# Altium integrated library Maxim Real-Time Clocks (RTCs).IntLib: 548 symbols (part 8 of 13)
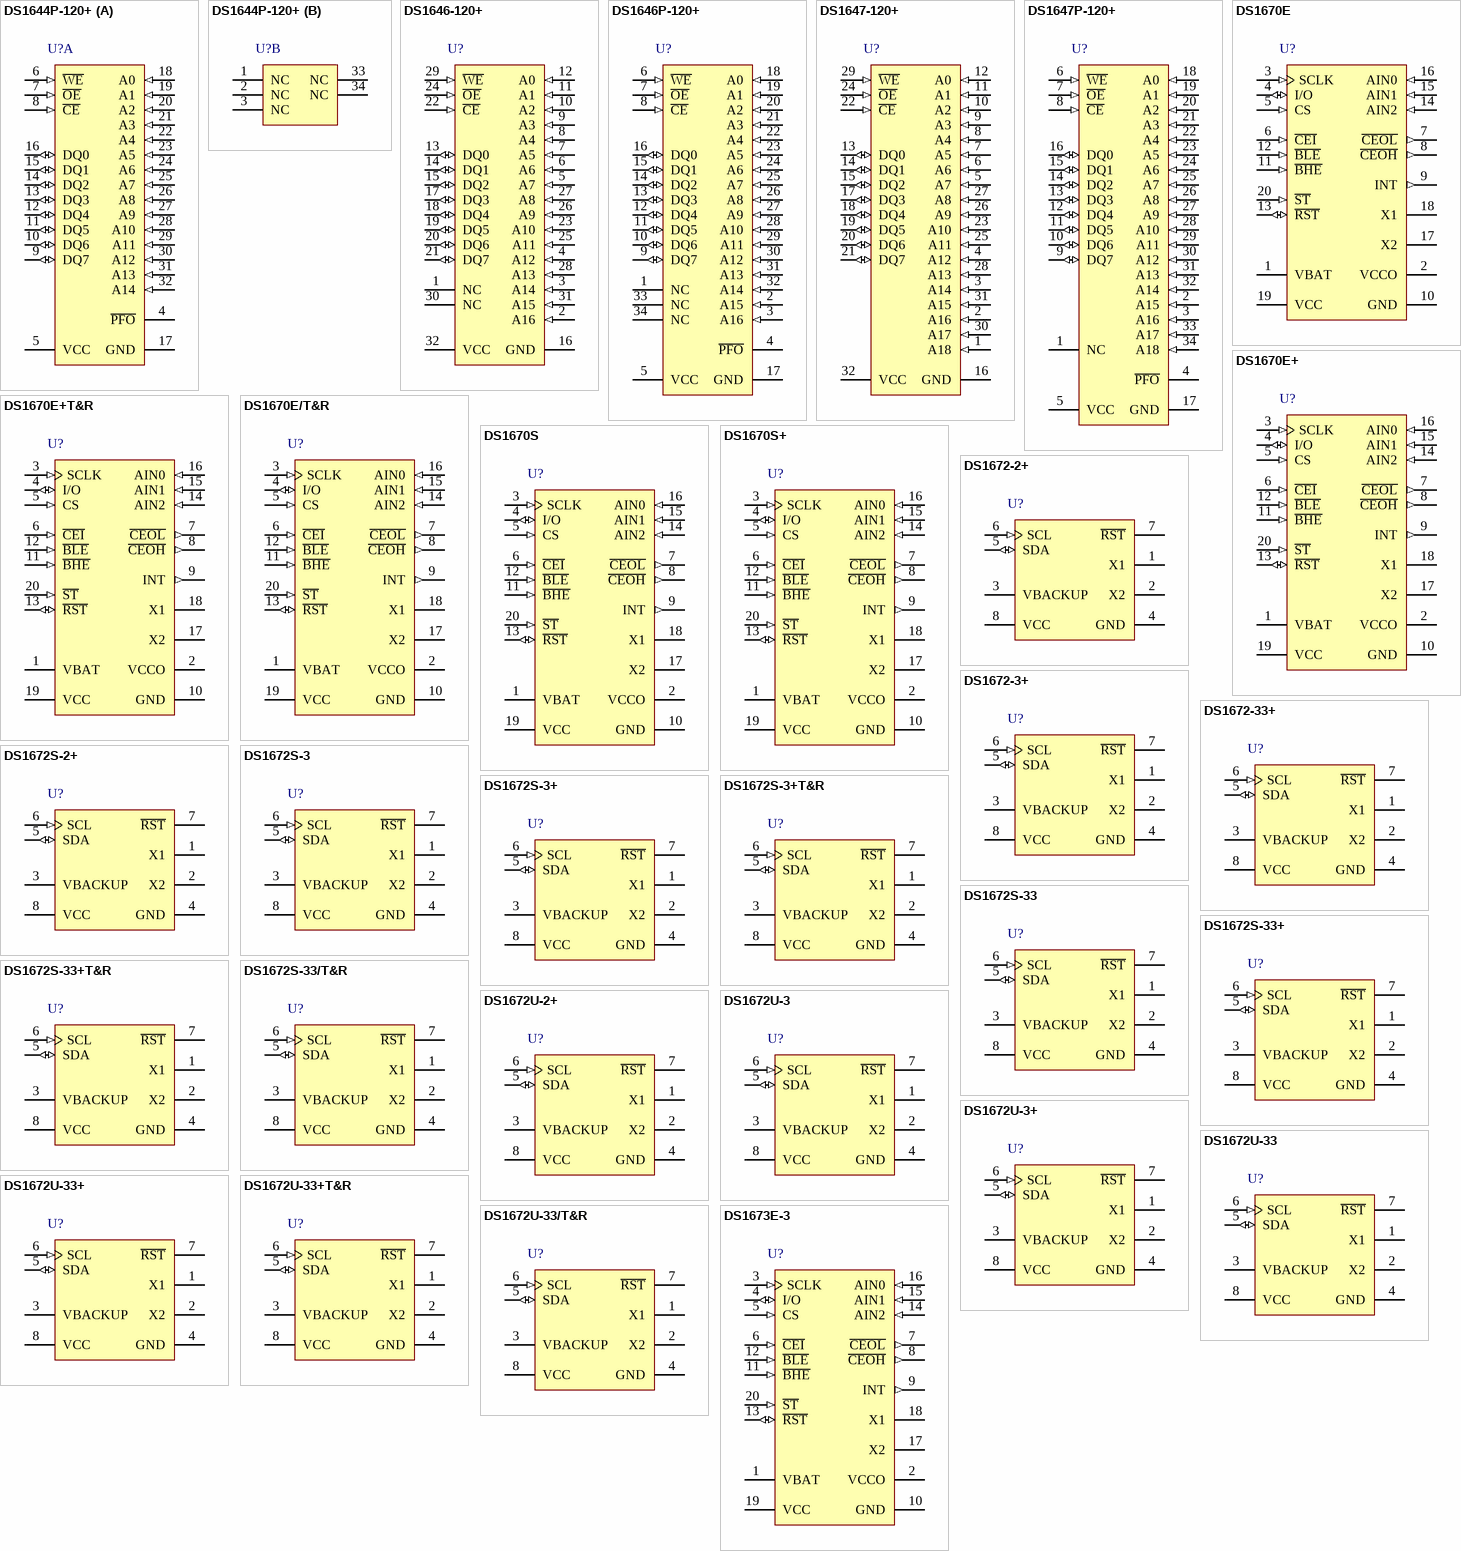
[diagram p28: symbols DS1644P-120+ to DS1673E-3]

## DS1647-120+
designator U?
Nonvolatile Timekeeping RAM, 5.0V, 32-Pin EDIP, 0 to 70 degC, Pb-Free; DatasheetVersion: Oct-2010; PackageVersion: revA, Feb-2009; PackageReference: MDT32+4; PackageDescription: 32-Pin Encapsulated Dual-In-Line Module, 2.54 mm Pitch, EDIP, Pb-Free; ComponentLink1Description: Manufacturer URL; ComponentLink1URL: http://www.maxim-ic.com; ComponentLink2Description: Datasheet; ComponentLink2URL: http://datasheets.maxim-ic.com/en/ds/DS1647-DS1647P.pdf; ComponentLink3Description: Package Specification; ComponentLink3URL: http://pdfserv.maxim-ic.com/package_dwgs/21-0245.PDF
footprint MDT32+4 (DIP, 32 Rectangular Pins, Body 43.1x18.5mm, Row Space 15.24mm, Pitch 2.54mm)
pins: 1 A18 (in), 2 A16 (in), 3 A14 (in), 4 A12 (in), 5 A7 (in), 6 A6 (in), 7 A5 (in), 8 A4 (in), 9 A3 (in), 10 A2 (in), 11 A1 (in), 12 A0 (in), 13 DQ0 (io), 14 DQ1 (io), 15 DQ2 (io), 16 GND (power), 17 DQ3 (io), 18 DQ4 (io), 19 DQ5 (io), 20 DQ6 (io), 21 DQ7 (io), 22 ~{CE} (in), 23 A10 (in), 24 ~{OE} (in), 25 A11 (in), 26 A9 (in), 27 A8 (in), 28 A13 (in), 29 ~{WE} (in), 30 A17 (in), 31 A15 (in), 32 VCC (power)

## DS1647P-120+
designator U?
Nonvolatile Timekeeping RAM, 5.0V, 34-Pin PowerCap, 0 to 70 degC, Pb-Free; DatasheetVersion: Oct-2010; PackageVersion: revA, 2004; PackageReference: PC2+1; PackageDescription: 34-Pin PowerCap 0.990 Module with Cap, PCAP, Pb-Free; ComponentLink1Description: Manufacturer URL; ComponentLink1URL: http://www.maxim-ic.com; ComponentLink2Description: Datasheet; ComponentLink2URL: http://datasheets.maxim-ic.com/en/ds/DS1647-DS1647P.pdf; ComponentLink3Description: Package Specification; ComponentLink3URL: http://pdfserv.maxim-ic.com/package_dwgs/21-0246.PDF
footprint PC2+1 (PowerCap Module with Cap, 34-Leads, Body 24.7 x.25.3mm, Pitch 1.27mm)
pins: 1 NC, 2 A15 (in), 3 A16 (in), 4 ~{PFO} (oc), 5 VCC (power), 6 ~{WE} (in), 7 ~{OE} (in), 8 ~{CE} (in), 9 DQ7 (io), 10 DQ6 (io), 11 DQ5 (io), 12 DQ4 (io), 13 DQ3 (io), 14 DQ2 (io), 15 DQ1 (io), 16 DQ0 (io), 17 GND (power), 18 A0 (in), 19 A1 (in), 20 A2 (in), 21 A3 (in), 22 A4 (in), 23 A5 (in), 24 A6 (in), 25 A7 (in), 26 A8 (in), 27 A9 (in), 28 A10 (in), 29 A11 (in), 30 A12 (in), 31 A13 (in), 32 A14 (in), 33 A17 (in), 34 A18 (in)

## DS1670E
designator U?
Portable System Controller, Real-Time Clock, NV SRAM Control, Microprocessor Monitor, ADC, 3.3V, 20-Pin TSSOP, 0 to 70 degC; DatasheetVersion: Aug-2005; PackageVersion: revL, 2010; PackageReference: U20-1; PackageDescription: 20-Pin Thin Shrink Small-Outline Package, 4.4 mm Body, TSSOP; Code_JEDEC: MO-153-AC; ComponentLink1Description: Manufacturer URL; ComponentLink1URL: http://www.maxim-ic.com; ComponentLink2Description: Datasheet; ComponentLink2URL: http://datasheets.maxim-ic.com/en/ds/DS1670.pdf; ComponentLink3Description: Package Specification; ComponentLink3URL: http://pdfserv.maxim-ic.com/package_dwgs/21-0066.PDF
footprint U20-1_N (TSOP, 20-Leads, Body 6.5x4.4mm, Pitch 0.65mm, IPC Medium Density)
footprint U20-1_L (TSOP, 20-Leads, Body 6.5x4.4mm, Pitch 0.65mm, IPC High Density)
footprint U20-1_M (TSOP, 20-Leads, Body 6.5x4.4mm, Pitch 0.65mm, IPC Low Density)
pins: 1 VBAT (power), 2 VCCO (power), 3 SCLK (in), 4 I/O (io), 5 CS (in), 6 ~{CEI} (in), 7 ~{CEOL} (out), 8 ~{CEOH} (out), 9 INT (out), 10 GND (power), 11 ~{BHE} (in), 12 ~{BLE} (in), 13 ~{RST} (io), 14 AIN2 (in), 15 AIN1 (in), 16 AIN0 (in), 17 X2, 18 X1, 19 VCC (power), 20 ~{ST} (in)

## DS1670E+
designator U?
Portable System Controller, Real-Time Clock, NV SRAM Control, Microprocessor Monitor, ADC, 3.3V, 20-Pin TSSOP, 0 to 70 degC, Pb-Free; DatasheetVersion: Aug-2005; PackageVersion: revL, 2010; PackageReference: U20+1; PackageDescription: 20-Pin Thin Shrink Small-Outline Package, 4.4 mm Body, TSSOP, Pb-Free; Code_JEDEC: MO-153-AC; ComponentLink1Description: Manufacturer URL; ComponentLink1URL: http://www.maxim-ic.com; ComponentLink2Description: Datasheet; ComponentLink2URL: http://datasheets.maxim-ic.com/en/ds/DS1670.pdf; ComponentLink3Description: Package Specification; ComponentLink3URL: http://pdfserv.maxim-ic.com/package_dwgs/21-0066.PDF
footprint U20+1_N (TSOP, 20-Leads, Body 6.5x4.4mm, Pitch 0.65mm, IPC Medium Density)
footprint U20+1_L (TSOP, 20-Leads, Body 6.5x4.4mm, Pitch 0.65mm, IPC High Density)
footprint U20+1_M (TSOP, 20-Leads, Body 6.5x4.4mm, Pitch 0.65mm, IPC Low Density)
pins: 1 VBAT (power), 2 VCCO (power), 3 SCLK (in), 4 I/O (io), 5 CS (in), 6 ~{CEI} (in), 7 ~{CEOL} (out), 8 ~{CEOH} (out), 9 INT (out), 10 GND (power), 11 ~{BHE} (in), 12 ~{BLE} (in), 13 ~{RST} (io), 14 AIN2 (in), 15 AIN1 (in), 16 AIN0 (in), 17 X2, 18 X1, 19 VCC (power), 20 ~{ST} (in)

## DS1670E+T&R
designator U?
Portable System Controller, Real-Time Clock, NV SRAM Control, Microprocessor Monitor, ADC, 3.3V, 20-Pin TSSOP, 0 to 70 degC, Pb-Free, Reel; DatasheetVersion: Aug-2005; PackageVersion: revL, 2010; PackageReference: U20+1; PackageDescription: 20-Pin Thin Shrink Small-Outline Package, 4.4 mm Body, TSSOP, Pb-Free; Code_JEDEC: MO-153-AC; ComponentLink1Description: Manufacturer URL; ComponentLink1URL: http://www.maxim-ic.com; ComponentLink2Description: Datasheet; ComponentLink2URL: http://datasheets.maxim-ic.com/en/ds/DS1670.pdf; ComponentLink3Description: Package Specification; ComponentLink3URL: http://pdfserv.maxim-ic.com/package_dwgs/21-0066.PDF
footprint U20+1_N (TSOP, 20-Leads, Body 6.5x4.4mm, Pitch 0.65mm, IPC Medium Density)
footprint U20+1_L (TSOP, 20-Leads, Body 6.5x4.4mm, Pitch 0.65mm, IPC High Density)
footprint U20+1_M (TSOP, 20-Leads, Body 6.5x4.4mm, Pitch 0.65mm, IPC Low Density)
pins: 1 VBAT (power), 2 VCCO (power), 3 SCLK (in), 4 I/O (io), 5 CS (in), 6 ~{CEI} (in), 7 ~{CEOL} (out), 8 ~{CEOH} (out), 9 INT (out), 10 GND (power), 11 ~{BHE} (in), 12 ~{BLE} (in), 13 ~{RST} (io), 14 AIN2 (in), 15 AIN1 (in), 16 AIN0 (in), 17 X2, 18 X1, 19 VCC (power), 20 ~{ST} (in)

## DS1670E/T&R
designator U?
Portable System Controller, Real-Time Clock, NV SRAM Control, Microprocessor Monitor, ADC, 3.3V, 20-Pin TSSOP, 0 to 70 degC, Reel; DatasheetVersion: Aug-2005; PackageVersion: revL, 2010; PackageReference: U20-1; PackageDescription: 20-Pin Thin Shrink Small-Outline Package, 4.4 mm Body, TSSOP; Code_JEDEC: MO-153-AC; ComponentLink1Description: Manufacturer URL; ComponentLink1URL: http://www.maxim-ic.com; ComponentLink2Description: Datasheet; ComponentLink2URL: http://datasheets.maxim-ic.com/en/ds/DS1670.pdf; ComponentLink3Description: Package Specification; ComponentLink3URL: http://pdfserv.maxim-ic.com/package_dwgs/21-0066.PDF
footprint U20-1_N (TSOP, 20-Leads, Body 6.5x4.4mm, Pitch 0.65mm, IPC Medium Density)
footprint U20-1_L (TSOP, 20-Leads, Body 6.5x4.4mm, Pitch 0.65mm, IPC High Density)
footprint U20-1_M (TSOP, 20-Leads, Body 6.5x4.4mm, Pitch 0.65mm, IPC Low Density)
pins: 1 VBAT (power), 2 VCCO (power), 3 SCLK (in), 4 I/O (io), 5 CS (in), 6 ~{CEI} (in), 7 ~{CEOL} (out), 8 ~{CEOH} (out), 9 INT (out), 10 GND (power), 11 ~{BHE} (in), 12 ~{BLE} (in), 13 ~{RST} (io), 14 AIN2 (in), 15 AIN1 (in), 16 AIN0 (in), 17 X2, 18 X1, 19 VCC (power), 20 ~{ST} (in)

## DS1670S
designator U?
Portable System Controller, Real-Time Clock, NV SRAM Control, Microprocessor Monitor, ADC, 3.3V, 20-Pin SO, 0 to 70 degC; DatasheetVersion: Aug-2005; PackageVersion: revD, 2010; PackageReference: W20-3; PackageDescription: 20-Pin Small-Outline IC, Wide (0.3in), 1.27 mm Pitch, SOIC (W); Code_JEDEC: MS-013-AC; Code_IPC: SOIC127P1030-20; ComponentLink1Description: Manufacturer URL; ComponentLink1URL: http://www.maxim-ic.com; ComponentLink2Description: Datasheet; ComponentLink2URL: http://datasheets.maxim-ic.com/en/ds/DS1670.pdf; ComponentLink3Description: Package Specification; ComponentLink3URL: http://pdfserv.maxim-ic.com/package_dwgs/21-0042.PDF
footprint W20-3_N (SOIC, 20-Leads, Body 12.8x7.5mm, Pitch 1.27mm, IPC Medium Density)
footprint W20-3_L (SOIC, 20-Leads, Body 12.8x7.5mm, Pitch 1.27mm, IPC High Density)
footprint W20-3_M (SOIC, 20-Leads, Body 12.8x7.5mm, Pitch 1.27mm, IPC Low Density)
pins: 1 VBAT (power), 2 VCCO (power), 3 SCLK (in), 4 I/O (io), 5 CS (in), 6 ~{CEI} (in), 7 ~{CEOL} (out), 8 ~{CEOH} (out), 9 INT (out), 10 GND (power), 11 ~{BHE} (in), 12 ~{BLE} (in), 13 ~{RST} (io), 14 AIN2 (in), 15 AIN1 (in), 16 AIN0 (in), 17 X2, 18 X1, 19 VCC (power), 20 ~{ST} (in)

## DS1670S+
designator U?
Portable System Controller, Real-Time Clock, NV SRAM Control, Microprocessor Monitor, ADC, 3.3V, 20-Pin SO, 0 to 70 degC, Pb-Free; DatasheetVersion: Aug-2005; PackageVersion: revD, 2010; PackageReference: W20+3; PackageDescription: 20-Pin Small-Outline IC, Wide (0.3in), 1.27 mm Pitch, SOIC (W), Pb-Free; Code_JEDEC: MS-013-AC; Code_IPC: SOIC127P1030-20; ComponentLink1Description: Manufacturer URL; ComponentLink1URL: http://www.maxim-ic.com; ComponentLink2Description: Datasheet; ComponentLink2URL: http://datasheets.maxim-ic.com/en/ds/DS1670.pdf; ComponentLink3Description: Package Specification; ComponentLink3URL: http://pdfserv.maxim-ic.com/package_dwgs/21-0042.PDF
footprint W20+3_N (SOIC, 20-Leads, Body 12.8x7.5mm, Pitch 1.27mm, IPC Medium Density)
footprint W20+3_L (SOIC, 20-Leads, Body 12.8x7.5mm, Pitch 1.27mm, IPC High Density)
footprint W20+3_M (SOIC, 20-Leads, Body 12.8x7.5mm, Pitch 1.27mm, IPC Low Density)
pins: 1 VBAT (power), 2 VCCO (power), 3 SCLK (in), 4 I/O (io), 5 CS (in), 6 ~{CEI} (in), 7 ~{CEOL} (out), 8 ~{CEOH} (out), 9 INT (out), 10 GND (power), 11 ~{BHE} (in), 12 ~{BLE} (in), 13 ~{RST} (io), 14 AIN2 (in), 15 AIN1 (in), 16 AIN0 (in), 17 X2, 18 X1, 19 VCC (power), 20 ~{ST} (in)

## DS1672-2+
designator U?
I2C 32-Bit Binary Counter Real-Time Clock, 2.0V, 8-Pin PDIP, -40 to 85 degC, Pb-Free; DatasheetVersion: Sep-2011; PackageVersion: revE, 2011; PackageReference: P8+1; PackageDescription: 8-Pin Plastic Dual-In-Line, Narrow (0.3in), Pitch 2.54 mm, PDIP(N), Pb-Free; Code_JEDEC: MS-001-AB; ComponentLink1Description: Manufacturer URL; ComponentLink1URL: http://www.maxim-ic.com; ComponentLink2Description: Datasheet; ComponentLink2URL: http://datasheets.maxim-ic.com/en/ds/DS1672.pdf; ComponentLink3Description: Package Specification; ComponentLink3URL: http://pdfserv.maxim-ic.com/package_dwgs/21-0043.PDF
footprint P8+1 (DIP, 8-Leads, Row Spacing 7.62mm, Pitch 2.54mm, Body 9.4x7mm)
pins: 1 X1, 2 X2, 3 VBACKUP (power), 4 GND (power), 5 SDA (io), 6 SCL (in), 7 ~{RST} (oc), 8 VCC (power)

## DS1672-3+
designator U?
I2C 32-Bit Binary Counter Real-Time Clock, 3.0V, 8-Pin PDIP, -40 to 85 degC, Pb-Free; DatasheetVersion: Sep-2011; PackageVersion: revE, 2011; PackageReference: P8+1; PackageDescription: 8-Pin Plastic Dual-In-Line, Narrow (0.3in), Pitch 2.54 mm, PDIP(N), Pb-Free; Code_JEDEC: MS-001-AB; ComponentLink1Description: Manufacturer URL; ComponentLink1URL: http://www.maxim-ic.com; ComponentLink2Description: Datasheet; ComponentLink2URL: http://datasheets.maxim-ic.com/en/ds/DS1672.pdf; ComponentLink3Description: Package Specification; ComponentLink3URL: http://pdfserv.maxim-ic.com/package_dwgs/21-0043.PDF
footprint P8+1 (DIP, 8-Leads, Row Spacing 7.62mm, Pitch 2.54mm, Body 9.4x7mm)
pins: 1 X1, 2 X2, 3 VBACKUP (power), 4 GND (power), 5 SDA (io), 6 SCL (in), 7 ~{RST} (oc), 8 VCC (power)

## DS1672-33+
designator U?
I2C 32-Bit Binary Counter Real-Time Clock, 3.3V, 8-Pin PDIP, -40 to 85 degC, Pb-Free; DatasheetVersion: Sep-2011; PackageVersion: revE, 2011; PackageReference: P8+1; PackageDescription: 8-Pin Plastic Dual-In-Line, Narrow (0.3in), Pitch 2.54 mm, PDIP(N), Pb-Free; Code_JEDEC: MS-001-AB; ComponentLink1Description: Manufacturer URL; ComponentLink1URL: http://www.maxim-ic.com; ComponentLink2Description: Datasheet; ComponentLink2URL: http://datasheets.maxim-ic.com/en/ds/DS1672.pdf; ComponentLink3Description: Package Specification; ComponentLink3URL: http://pdfserv.maxim-ic.com/package_dwgs/21-0043.PDF
footprint P8+1 (DIP, 8-Leads, Row Spacing 7.62mm, Pitch 2.54mm, Body 9.4x7mm)
pins: 1 X1, 2 X2, 3 VBACKUP (power), 4 GND (power), 5 SDA (io), 6 SCL (in), 7 ~{RST} (oc), 8 VCC (power)

## DS1672S-2+
designator U?
I2C 32-Bit Binary Counter Real-Time Clock, 2.0V, 8-Pin SO, -40 to 85 degC, Pb-Free; DatasheetVersion: Sep-2011; PackageVersion: revC, 2010; PackageReference: S8+5; PackageDescription: 8-Pin Small-Outline IC, Narrow (0.15in), 1.27 mm Pitch, SOIC (N), Pb-Free; Code_JEDEC: MS-012-AA; Code_IPC: SOIC127P600-8; ComponentLink1Description: Manufacturer URL; ComponentLink1URL: http://www.maxim-ic.com; ComponentLink2Description: Datasheet; ComponentLink2URL: http://datasheets.maxim-ic.com/en/ds/DS1672.pdf; ComponentLink3Description: Package Specification; ComponentLink3URL: http://pdfserv.maxim-ic.com/package_dwgs/21-0041.PDF
footprint S8+5_N (SOIC, 8-Leads, Body 4.9x3.9mm, Pitch 1.27mm, IPC Medium Density)
footprint S8+5_L (SOIC, 8-Leads, Body 4.9x3.9mm, Pitch 1.27mm, IPC High Density)
footprint S8+5_M (SOIC, 8-Leads, Body 4.9x3.9mm, Pitch 1.27mm, IPC Low Density)
pins: 1 X1, 2 X2, 3 VBACKUP (power), 4 GND (power), 5 SDA (io), 6 SCL (in), 7 ~{RST} (oc), 8 VCC (power)

## DS1672S-3
designator U?
I2C 32-Bit Binary Counter Real-Time Clock, 3.0V, 8-Pin SO, -40 to 85 degC; DatasheetVersion: Sep-2011; PackageVersion: revC, 2010; PackageReference: S8-4; PackageDescription: 8-Pin Small-Outline IC, Narrow (0.15in), 1.27 mm Pitch, SOIC (N); Code_JEDEC: MS-012-AA; Code_IPC: SOIC127P600-8; ComponentLink1Description: Manufacturer URL; ComponentLink1URL: http://www.maxim-ic.com; ComponentLink2Description: Datasheet; ComponentLink2URL: http://datasheets.maxim-ic.com/en/ds/DS1672.pdf; ComponentLink3Description: Package Specification; ComponentLink3URL: http://pdfserv.maxim-ic.com/package_dwgs/21-0041.PDF
footprint S8-4_N (SOIC, 8-Leads, Body 4.9x3.9mm, Pitch 1.27mm, IPC Medium Density)
footprint S8-4_L (SOIC, 8-Leads, Body 4.9x3.9mm, Pitch 1.27mm, IPC High Density)
footprint S8-4_M (SOIC, 8-Leads, Body 4.9x3.9mm, Pitch 1.27mm, IPC Low Density)
pins: 1 X1, 2 X2, 3 VBACKUP (power), 4 GND (power), 5 SDA (io), 6 SCL (in), 7 ~{RST} (oc), 8 VCC (power)

## DS1672S-3+
designator U?
I2C 32-Bit Binary Counter Real-Time Clock, 3.0V, 8-Pin SO, -40 to 85 degC, Pb-Free; DatasheetVersion: Sep-2011; PackageVersion: revC, 2010; PackageReference: S8+5; PackageDescription: 8-Pin Small-Outline IC, Narrow (0.15in), 1.27 mm Pitch, SOIC (N), Pb-Free; Code_JEDEC: MS-012-AA; Code_IPC: SOIC127P600-8; ComponentLink1Description: Manufacturer URL; ComponentLink1URL: http://www.maxim-ic.com; ComponentLink2Description: Datasheet; ComponentLink2URL: http://datasheets.maxim-ic.com/en/ds/DS1672.pdf; ComponentLink3Description: Package Specification; ComponentLink3URL: http://pdfserv.maxim-ic.com/package_dwgs/21-0041.PDF
footprint S8+5_N (SOIC, 8-Leads, Body 4.9x3.9mm, Pitch 1.27mm, IPC Medium Density)
footprint S8+5_L (SOIC, 8-Leads, Body 4.9x3.9mm, Pitch 1.27mm, IPC High Density)
footprint S8+5_M (SOIC, 8-Leads, Body 4.9x3.9mm, Pitch 1.27mm, IPC Low Density)
pins: 1 X1, 2 X2, 3 VBACKUP (power), 4 GND (power), 5 SDA (io), 6 SCL (in), 7 ~{RST} (oc), 8 VCC (power)

## DS1672S-3+T&R
designator U?
I2C 32-Bit Binary Counter Real-Time Clock, 3.0V, 8-Pin SO, -40 to 85 degC, Pb-Free, Reel; DatasheetVersion: Sep-2011; PackageVersion: revC, 2010; PackageReference: S8+5; PackageDescription: 8-Pin Small-Outline IC, Narrow (0.15in), 1.27 mm Pitch, SOIC (N), Pb-Free; Code_JEDEC: MS-012-AA; Code_IPC: SOIC127P600-8; ComponentLink1Description: Manufacturer URL; ComponentLink1URL: http://www.maxim-ic.com; ComponentLink2Description: Datasheet; ComponentLink2URL: http://datasheets.maxim-ic.com/en/ds/DS1672.pdf; ComponentLink3Description: Package Specification; ComponentLink3URL: http://pdfserv.maxim-ic.com/package_dwgs/21-0041.PDF
footprint S8+5_N (SOIC, 8-Leads, Body 4.9x3.9mm, Pitch 1.27mm, IPC Medium Density)
footprint S8+5_L (SOIC, 8-Leads, Body 4.9x3.9mm, Pitch 1.27mm, IPC High Density)
footprint S8+5_M (SOIC, 8-Leads, Body 4.9x3.9mm, Pitch 1.27mm, IPC Low Density)
pins: 1 X1, 2 X2, 3 VBACKUP (power), 4 GND (power), 5 SDA (io), 6 SCL (in), 7 ~{RST} (oc), 8 VCC (power)

## DS1672S-33
designator U?
I2C 32-Bit Binary Counter Real-Time Clock, 3.3V, 8-Pin SO, -40 to 85 degC; DatasheetVersion: Sep-2011; PackageVersion: revC, 2010; PackageReference: S8-4; PackageDescription: 8-Pin Small-Outline IC, Narrow (0.15in), 1.27 mm Pitch, SOIC (N); Code_JEDEC: MS-012-AA; Code_IPC: SOIC127P600-8; ComponentLink1Description: Manufacturer URL; ComponentLink1URL: http://www.maxim-ic.com; ComponentLink2Description: Datasheet; ComponentLink2URL: http://datasheets.maxim-ic.com/en/ds/DS1672.pdf; ComponentLink3Description: Package Specification; ComponentLink3URL: http://pdfserv.maxim-ic.com/package_dwgs/21-0041.PDF
footprint S8-4_N (SOIC, 8-Leads, Body 4.9x3.9mm, Pitch 1.27mm, IPC Medium Density)
footprint S8-4_L (SOIC, 8-Leads, Body 4.9x3.9mm, Pitch 1.27mm, IPC High Density)
footprint S8-4_M (SOIC, 8-Leads, Body 4.9x3.9mm, Pitch 1.27mm, IPC Low Density)
pins: 1 X1, 2 X2, 3 VBACKUP (power), 4 GND (power), 5 SDA (io), 6 SCL (in), 7 ~{RST} (oc), 8 VCC (power)

## DS1672S-33+
designator U?
I2C 32-Bit Binary Counter Real-Time Clock, 3.3V, 8-Pin SO, -40 to 85 degC, Pb-Free; DatasheetVersion: Sep-2011; PackageVersion: revC, 2010; PackageReference: S8+5; PackageDescription: 8-Pin Small-Outline IC, Narrow (0.15in), 1.27 mm Pitch, SOIC (N), Pb-Free; Code_JEDEC: MS-012-AA; Code_IPC: SOIC127P600-8; ComponentLink1Description: Manufacturer URL; ComponentLink1URL: http://www.maxim-ic.com; ComponentLink2Description: Datasheet; ComponentLink2URL: http://datasheets.maxim-ic.com/en/ds/DS1672.pdf; ComponentLink3Description: Package Specification; ComponentLink3URL: http://pdfserv.maxim-ic.com/package_dwgs/21-0041.PDF
footprint S8+5_N (SOIC, 8-Leads, Body 4.9x3.9mm, Pitch 1.27mm, IPC Medium Density)
footprint S8+5_L (SOIC, 8-Leads, Body 4.9x3.9mm, Pitch 1.27mm, IPC High Density)
footprint S8+5_M (SOIC, 8-Leads, Body 4.9x3.9mm, Pitch 1.27mm, IPC Low Density)
pins: 1 X1, 2 X2, 3 VBACKUP (power), 4 GND (power), 5 SDA (io), 6 SCL (in), 7 ~{RST} (oc), 8 VCC (power)

## DS1672S-33+T&R
designator U?
I2C 32-Bit Binary Counter Real-Time Clock, 3.3V, 8-Pin SO, -40 to 85 degC, Pb-Free, Reel; DatasheetVersion: Sep-2011; PackageVersion: revC, 2010; PackageReference: S8+5; PackageDescription: 8-Pin Small-Outline IC, Narrow (0.15in), 1.27 mm Pitch, SOIC (N), Pb-Free; Code_JEDEC: MS-012-AA; Code_IPC: SOIC127P600-8; ComponentLink1Description: Manufacturer URL; ComponentLink1URL: http://www.maxim-ic.com; ComponentLink2Description: Datasheet; ComponentLink2URL: http://datasheets.maxim-ic.com/en/ds/DS1672.pdf; ComponentLink3Description: Package Specification; ComponentLink3URL: http://pdfserv.maxim-ic.com/package_dwgs/21-0041.PDF
footprint S8+5_N (SOIC, 8-Leads, Body 4.9x3.9mm, Pitch 1.27mm, IPC Medium Density)
footprint S8+5_L (SOIC, 8-Leads, Body 4.9x3.9mm, Pitch 1.27mm, IPC High Density)
footprint S8+5_M (SOIC, 8-Leads, Body 4.9x3.9mm, Pitch 1.27mm, IPC Low Density)
pins: 1 X1, 2 X2, 3 VBACKUP (power), 4 GND (power), 5 SDA (io), 6 SCL (in), 7 ~{RST} (oc), 8 VCC (power)

## DS1672S-33/T&R
designator U?
I2C 32-Bit Binary Counter Real-Time Clock, 3.3V, 8-Pin SO, -40 to 85 degC, Reel; DatasheetVersion: Sep-2011; PackageVersion: revC, 2010; PackageReference: S8-4; PackageDescription: 8-Pin Small-Outline IC, Narrow (0.15in), 1.27 mm Pitch, SOIC (N); Code_JEDEC: MS-012-AA; Code_IPC: SOIC127P600-8; ComponentLink1Description: Manufacturer URL; ComponentLink1URL: http://www.maxim-ic.com; ComponentLink2Description: Datasheet; ComponentLink2URL: http://datasheets.maxim-ic.com/en/ds/DS1672.pdf; ComponentLink3Description: Package Specification; ComponentLink3URL: http://pdfserv.maxim-ic.com/package_dwgs/21-0041.PDF
footprint S8-4_N (SOIC, 8-Leads, Body 4.9x3.9mm, Pitch 1.27mm, IPC Medium Density)
footprint S8-4_L (SOIC, 8-Leads, Body 4.9x3.9mm, Pitch 1.27mm, IPC High Density)
footprint S8-4_M (SOIC, 8-Leads, Body 4.9x3.9mm, Pitch 1.27mm, IPC Low Density)
pins: 1 X1, 2 X2, 3 VBACKUP (power), 4 GND (power), 5 SDA (io), 6 SCL (in), 7 ~{RST} (oc), 8 VCC (power)

## DS1672U-2+
designator U?
I2C 32-Bit Binary Counter Real-Time Clock, 2.0V, 8-Pin uSOP, -40 to 85 degC, Pb-Free; DatasheetVersion: Sep-2011; PackageVersion: revL, 2009; PackageReference: U8+1; PackageDescription: 8-Pin Micro-MAX, Thin Shrink Small-Outline, 0.65 mm Pitch, uMAX, uSOP, Pb-Free; Code_JEDEC: MO-187-AA; ComponentLink1Description: Manufacturer URL; ComponentLink1URL: http://www.maxim-ic.com; ComponentLink2Description: Datasheet; ComponentLink2URL: http://datasheets.maxim-ic.com/en/ds/DS1672.pdf; ComponentLink3Description: Package Specification; ComponentLink3URL: http://pdfserv.maxim-ic.com/package_dwgs/21-0036.PDF
footprint U8+1_N (TSOP, 8-Leads, Body 3x3mm, Pitch 0.65mm, IPC Medium Density)
footprint U8+1_L (TSOP, 8-Leads, Body 3x3mm, Pitch 0.65mm, IPC High Density)
footprint U8+1_M (TSOP, 8-Leads, Body 3x3mm, Pitch 0.65mm, IPC Low Density)
pins: 1 X1, 2 X2, 3 VBACKUP (power), 4 GND (power), 5 SDA (io), 6 SCL (in), 7 ~{RST} (oc), 8 VCC (power)

## DS1672U-3
designator U?
I2C 32-Bit Binary Counter Real-Time Clock, 3.0V, 8-Pin uSOP, -40 to 85 degC; DatasheetVersion: Sep-2011; PackageVersion: revL, 2009; PackageReference: U8-1; PackageDescription: 8-Pin Micro-MAX, Thin Shrink Small-Outline, 0.65 mm Pitch, uMAX, uSOP; Code_JEDEC: MO-187-AA; ComponentLink1Description: Manufacturer URL; ComponentLink1URL: http://www.maxim-ic.com; ComponentLink2Description: Datasheet; ComponentLink2URL: http://datasheets.maxim-ic.com/en/ds/DS1672.pdf; ComponentLink3Description: Package Specification; ComponentLink3URL: http://pdfserv.maxim-ic.com/package_dwgs/21-0036.PDF
footprint U8-1_N (TSOP, 8-Leads, Body 3x3mm, Pitch 0.65mm, IPC Medium Density)
footprint U8-1_L (TSOP, 8-Leads, Body 3x3mm, Pitch 0.65mm, IPC High Density)
footprint U8-1_M (TSOP, 8-Leads, Body 3x3mm, Pitch 0.65mm, IPC Low Density)
pins: 1 X1, 2 X2, 3 VBACKUP (power), 4 GND (power), 5 SDA (io), 6 SCL (in), 7 ~{RST} (oc), 8 VCC (power)

## DS1672U-3+
designator U?
I2C 32-Bit Binary Counter Real-Time Clock, 3.0V, 8-Pin uSOP, -40 to 85 degC, Pb-Free; DatasheetVersion: Sep-2011; PackageVersion: revL, 2009; PackageReference: U8+1; PackageDescription: 8-Pin Micro-MAX, Thin Shrink Small-Outline, 0.65 mm Pitch, uMAX, uSOP, Pb-Free; Code_JEDEC: MO-187-AA; ComponentLink1Description: Manufacturer URL; ComponentLink1URL: http://www.maxim-ic.com; ComponentLink2Description: Datasheet; ComponentLink2URL: http://datasheets.maxim-ic.com/en/ds/DS1672.pdf; ComponentLink3Description: Package Specification; ComponentLink3URL: http://pdfserv.maxim-ic.com/package_dwgs/21-0036.PDF
footprint U8+1_N (TSOP, 8-Leads, Body 3x3mm, Pitch 0.65mm, IPC Medium Density)
footprint U8+1_L (TSOP, 8-Leads, Body 3x3mm, Pitch 0.65mm, IPC High Density)
footprint U8+1_M (TSOP, 8-Leads, Body 3x3mm, Pitch 0.65mm, IPC Low Density)
pins: 1 X1, 2 X2, 3 VBACKUP (power), 4 GND (power), 5 SDA (io), 6 SCL (in), 7 ~{RST} (oc), 8 VCC (power)

## DS1672U-33
designator U?
I2C 32-Bit Binary Counter Real-Time Clock, 3.3V, 8-Pin uSOP, -40 to 85 degC; DatasheetVersion: Sep-2011; PackageVersion: revL, 2009; PackageReference: U8-1; PackageDescription: 8-Pin Micro-MAX, Thin Shrink Small-Outline, 0.65 mm Pitch, uMAX, uSOP; Code_JEDEC: MO-187-AA; ComponentLink1Description: Manufacturer URL; ComponentLink1URL: http://www.maxim-ic.com; ComponentLink2Description: Datasheet; ComponentLink2URL: http://datasheets.maxim-ic.com/en/ds/DS1672.pdf; ComponentLink3Description: Package Specification; ComponentLink3URL: http://pdfserv.maxim-ic.com/package_dwgs/21-0036.PDF
footprint U8-1_N (TSOP, 8-Leads, Body 3x3mm, Pitch 0.65mm, IPC Medium Density)
footprint U8-1_L (TSOP, 8-Leads, Body 3x3mm, Pitch 0.65mm, IPC High Density)
footprint U8-1_M (TSOP, 8-Leads, Body 3x3mm, Pitch 0.65mm, IPC Low Density)
pins: 1 X1, 2 X2, 3 VBACKUP (power), 4 GND (power), 5 SDA (io), 6 SCL (in), 7 ~{RST} (oc), 8 VCC (power)

## DS1672U-33+
designator U?
I2C 32-Bit Binary Counter Real-Time Clock, 3.3V, 8-Pin uSOP, -40 to 85 degC, Pb-Free; DatasheetVersion: Sep-2011; PackageVersion: revL, 2009; PackageReference: U8+1; PackageDescription: 8-Pin Micro-MAX, Thin Shrink Small-Outline, 0.65 mm Pitch, uMAX, uSOP, Pb-Free; Code_JEDEC: MO-187-AA; ComponentLink1Description: Manufacturer URL; ComponentLink1URL: http://www.maxim-ic.com; ComponentLink2Description: Datasheet; ComponentLink2URL: http://datasheets.maxim-ic.com/en/ds/DS1672.pdf; ComponentLink3Description: Package Specification; ComponentLink3URL: http://pdfserv.maxim-ic.com/package_dwgs/21-0036.PDF
footprint U8+1_N (TSOP, 8-Leads, Body 3x3mm, Pitch 0.65mm, IPC Medium Density)
footprint U8+1_L (TSOP, 8-Leads, Body 3x3mm, Pitch 0.65mm, IPC High Density)
footprint U8+1_M (TSOP, 8-Leads, Body 3x3mm, Pitch 0.65mm, IPC Low Density)
pins: 1 X1, 2 X2, 3 VBACKUP (power), 4 GND (power), 5 SDA (io), 6 SCL (in), 7 ~{RST} (oc), 8 VCC (power)

## DS1672U-33+T&R
designator U?
I2C 32-Bit Binary Counter Real-Time Clock, 3.3V, 8-Pin uSOP, -40 to 85 degC, Pb-Free, Reel; DatasheetVersion: Sep-2011; PackageVersion: revL, 2009; PackageReference: U8+1; PackageDescription: 8-Pin Micro-MAX, Thin Shrink Small-Outline, 0.65 mm Pitch, uMAX, uSOP, Pb-Free; Code_JEDEC: MO-187-AA; ComponentLink1Description: Manufacturer URL; ComponentLink1URL: http://www.maxim-ic.com; ComponentLink2Description: Datasheet; ComponentLink2URL: http://datasheets.maxim-ic.com/en/ds/DS1672.pdf; ComponentLink3Description: Package Specification; ComponentLink3URL: http://pdfserv.maxim-ic.com/package_dwgs/21-0036.PDF
footprint U8+1_N (TSOP, 8-Leads, Body 3x3mm, Pitch 0.65mm, IPC Medium Density)
footprint U8+1_L (TSOP, 8-Leads, Body 3x3mm, Pitch 0.65mm, IPC High Density)
footprint U8+1_M (TSOP, 8-Leads, Body 3x3mm, Pitch 0.65mm, IPC Low Density)
pins: 1 X1, 2 X2, 3 VBACKUP (power), 4 GND (power), 5 SDA (io), 6 SCL (in), 7 ~{RST} (oc), 8 VCC (power)

## DS1672U-33/T&R
designator U?
I2C 32-Bit Binary Counter Real-Time Clock, 3.3V, 8-Pin uSOP, -40 to 85 degC, Reel; DatasheetVersion: Sep-2011; PackageVersion: revL, 2009; PackageReference: U8-1; PackageDescription: 8-Pin Micro-MAX, Thin Shrink Small-Outline, 0.65 mm Pitch, uMAX, uSOP; Code_JEDEC: MO-187-AA; ComponentLink1Description: Manufacturer URL; ComponentLink1URL: http://www.maxim-ic.com; ComponentLink2Description: Datasheet; ComponentLink2URL: http://datasheets.maxim-ic.com/en/ds/DS1672.pdf; ComponentLink3Description: Package Specification; ComponentLink3URL: http://pdfserv.maxim-ic.com/package_dwgs/21-0036.PDF
footprint U8-1_N (TSOP, 8-Leads, Body 3x3mm, Pitch 0.65mm, IPC Medium Density)
footprint U8-1_L (TSOP, 8-Leads, Body 3x3mm, Pitch 0.65mm, IPC High Density)
footprint U8-1_M (TSOP, 8-Leads, Body 3x3mm, Pitch 0.65mm, IPC Low Density)
pins: 1 X1, 2 X2, 3 VBACKUP (power), 4 GND (power), 5 SDA (io), 6 SCL (in), 7 ~{RST} (oc), 8 VCC (power)

## DS1673E-3
designator U?
Portable System Controller, Real-Time Clock, NV SRAM Control, Microprocessor Monitor, ADC, 3.0V, 20-Pin TSSOP, 0 to 70 degC; DatasheetVersion: Aug-2005; PackageVersion: revL, 2010; PackageReference: U20-1; PackageDescription: 20-Pin Thin Shrink Small-Outline Package, 4.4 mm Body, TSSOP; Code_JEDEC: MO-153-AC; ComponentLink1Description: Manufacturer URL; ComponentLink1URL: http://www.maxim-ic.com; ComponentLink2Description: Datasheet; ComponentLink2URL: http://datasheets.maxim-ic.com/en/ds/DS1673.pdf; ComponentLink3Description: Package Specification; ComponentLink3URL: http://pdfserv.maxim-ic.com/package_dwgs/21-0066.PDF
footprint U20-1_N (TSOP, 20-Leads, Body 6.5x4.4mm, Pitch 0.65mm, IPC Medium Density)
footprint U20-1_L (TSOP, 20-Leads, Body 6.5x4.4mm, Pitch 0.65mm, IPC High Density)
footprint U20-1_M (TSOP, 20-Leads, Body 6.5x4.4mm, Pitch 0.65mm, IPC Low Density)
pins: 1 VBAT (power), 2 VCCO (power), 3 SCLK (in), 4 I/O (io), 5 CS (in), 6 ~{CEI} (in), 7 ~{CEOL} (out), 8 ~{CEOH} (out), 9 INT (out), 10 GND (power), 11 ~{BHE} (in), 12 ~{BLE} (in), 13 ~{RST} (io), 14 AIN2 (in), 15 AIN1 (in), 16 AIN0 (in), 17 X2, 18 X1, 19 VCC (power), 20 ~{ST} (in)

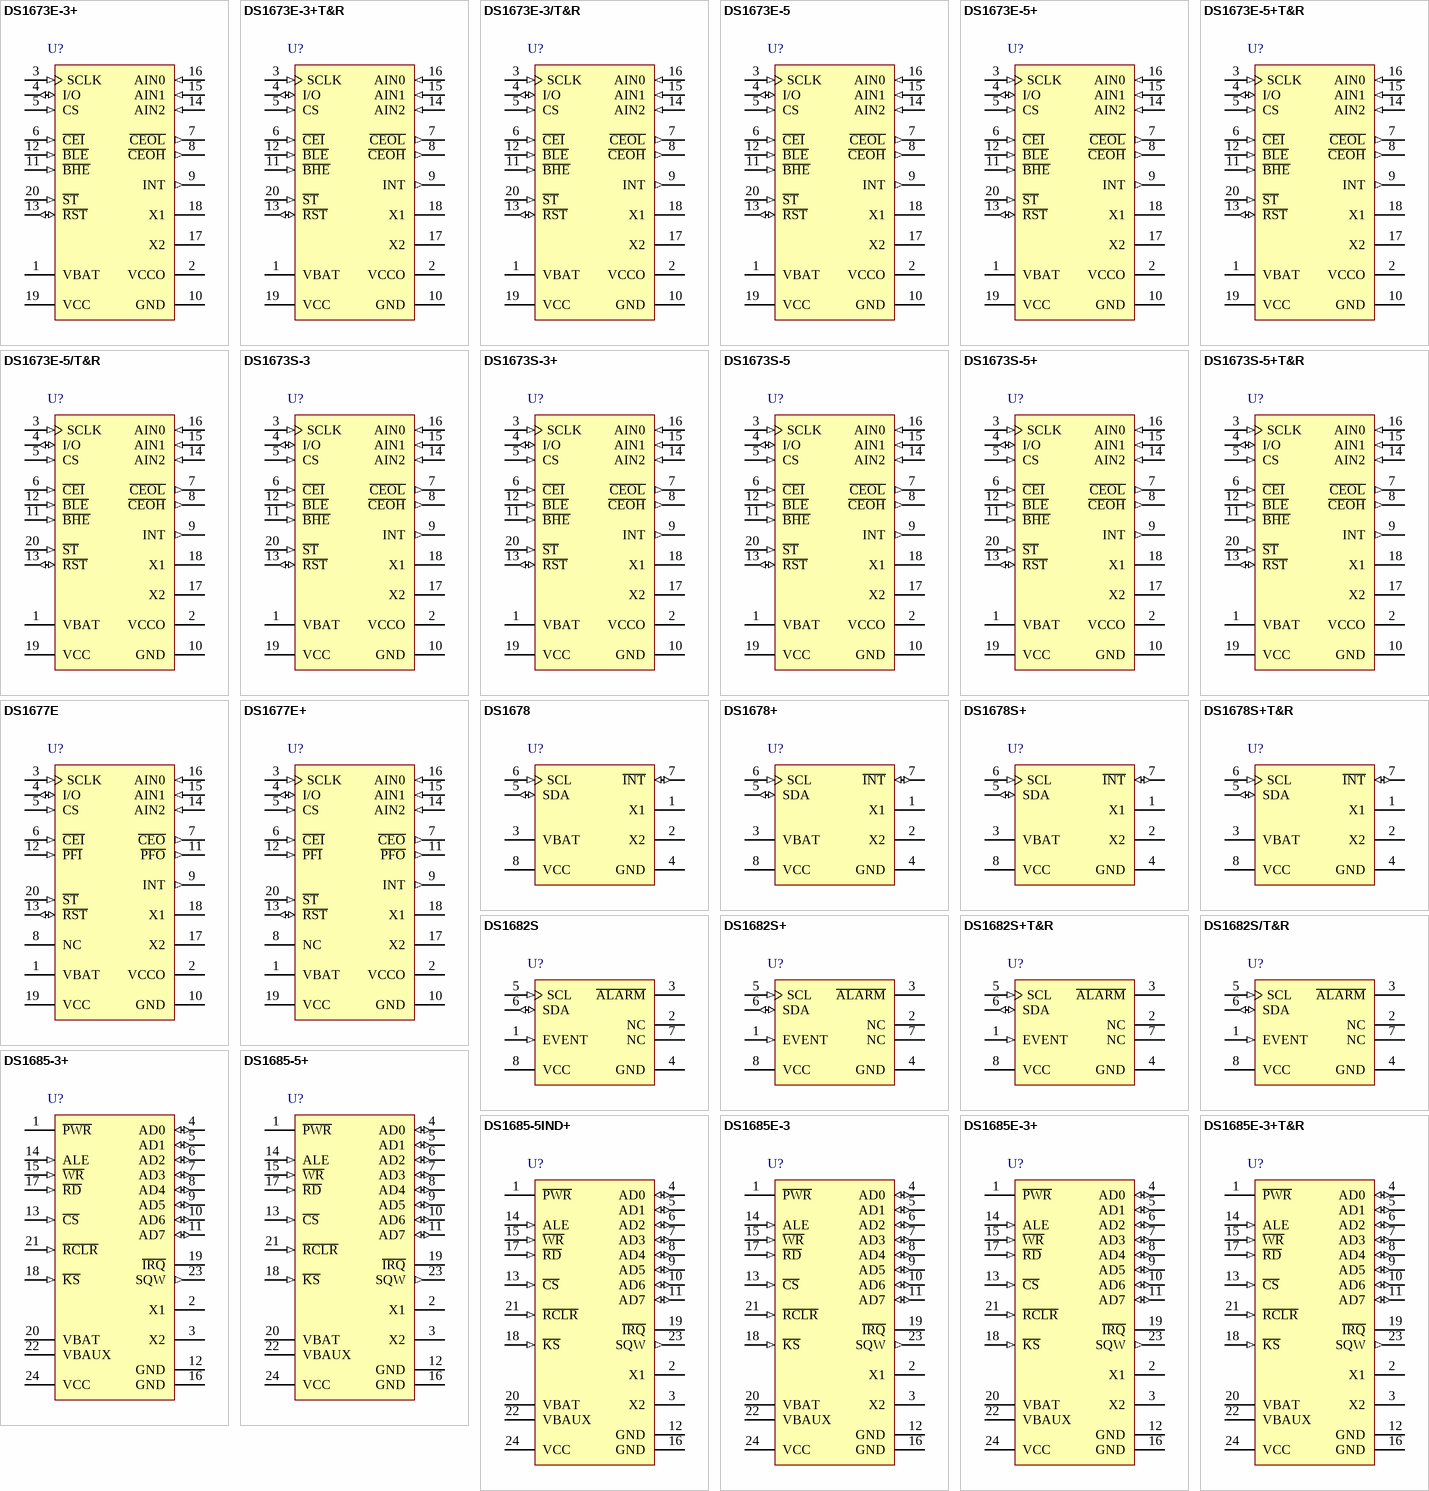
[diagram p13: symbols DS1673E-3+ to DS1685E-3+T&R]

## DS1673E-3+
designator U?
Portable System Controller, Real-Time Clock, NV SRAM Control, Microprocessor Monitor, ADC, 3.0V, 20-Pin TSSOP, 0 to 70 degC, Pb-Free; DatasheetVersion: Aug-2005; PackageVersion: revL, 2010; PackageReference: U20+5; PackageDescription: 20-Pin Thin Shrink Small-Outline Package, 4.4 mm Body, TSSOP, Pb-Free; Code_JEDEC: MO-153-AC; ComponentLink1Description: Manufacturer URL; ComponentLink1URL: http://www.maxim-ic.com; ComponentLink2Description: Datasheet; ComponentLink2URL: http://datasheets.maxim-ic.com/en/ds/DS1673.pdf; ComponentLink3Description: Package Specification; ComponentLink3URL: http://pdfserv.maxim-ic.com/package_dwgs/21-0066.PDF
footprint U20+5_N (TSOP, 20-Leads, Body 6.5x4.4mm, Pitch 0.65mm, IPC Medium Density)
footprint U20+5_L (TSOP, 20-Leads, Body 6.5x4.4mm, Pitch 0.65mm, IPC High Density)
footprint U20+5_M (TSOP, 20-Leads, Body 6.5x4.4mm, Pitch 0.65mm, IPC Low Density)
pins: 1 VBAT (power), 2 VCCO (power), 3 SCLK (in), 4 I/O (io), 5 CS (in), 6 ~{CEI} (in), 7 ~{CEOL} (out), 8 ~{CEOH} (out), 9 INT (out), 10 GND (power), 11 ~{BHE} (in), 12 ~{BLE} (in), 13 ~{RST} (io), 14 AIN2 (in), 15 AIN1 (in), 16 AIN0 (in), 17 X2, 18 X1, 19 VCC (power), 20 ~{ST} (in)

## DS1673E-3+T&R
designator U?
Portable System Controller, Real-Time Clock, NV SRAM Control, Microprocessor Monitor, ADC, 3.0V, 20-Pin TSSOP, 0 to 70 degC, Pb-Free, Reel; DatasheetVersion: Aug-2005; PackageVersion: revL, 2010; PackageReference: U20+5; PackageDescription: 20-Pin Thin Shrink Small-Outline Package, 4.4 mm Body, TSSOP, Pb-Free; Code_JEDEC: MO-153-AC; ComponentLink1Description: Manufacturer URL; ComponentLink1URL: http://www.maxim-ic.com; ComponentLink2Description: Datasheet; ComponentLink2URL: http://datasheets.maxim-ic.com/en/ds/DS1673.pdf; ComponentLink3Description: Package Specification; ComponentLink3URL: http://pdfserv.maxim-ic.com/package_dwgs/21-0066.PDF
footprint U20+5_N (TSOP, 20-Leads, Body 6.5x4.4mm, Pitch 0.65mm, IPC Medium Density)
footprint U20+5_L (TSOP, 20-Leads, Body 6.5x4.4mm, Pitch 0.65mm, IPC High Density)
footprint U20+5_M (TSOP, 20-Leads, Body 6.5x4.4mm, Pitch 0.65mm, IPC Low Density)
pins: 1 VBAT (power), 2 VCCO (power), 3 SCLK (in), 4 I/O (io), 5 CS (in), 6 ~{CEI} (in), 7 ~{CEOL} (out), 8 ~{CEOH} (out), 9 INT (out), 10 GND (power), 11 ~{BHE} (in), 12 ~{BLE} (in), 13 ~{RST} (io), 14 AIN2 (in), 15 AIN1 (in), 16 AIN0 (in), 17 X2, 18 X1, 19 VCC (power), 20 ~{ST} (in)

## DS1673E-3/T&R
designator U?
Portable System Controller, Real-Time Clock, NV SRAM Control, Microprocessor Monitor, ADC, 3.0V, 20-Pin TSSOP, 0 to 70 degC, Reel; DatasheetVersion: Aug-2005; PackageVersion: revL, 2010; PackageReference: U20-1; PackageDescription: 20-Pin Thin Shrink Small-Outline Package, 4.4 mm Body, TSSOP; Code_JEDEC: MO-153-AC; ComponentLink1Description: Manufacturer URL; ComponentLink1URL: http://www.maxim-ic.com; ComponentLink2Description: Datasheet; ComponentLink2URL: http://datasheets.maxim-ic.com/en/ds/DS1673.pdf; ComponentLink3Description: Package Specification; ComponentLink3URL: http://pdfserv.maxim-ic.com/package_dwgs/21-0066.PDF
footprint U20-1_N (TSOP, 20-Leads, Body 6.5x4.4mm, Pitch 0.65mm, IPC Medium Density)
footprint U20-1_L (TSOP, 20-Leads, Body 6.5x4.4mm, Pitch 0.65mm, IPC High Density)
footprint U20-1_M (TSOP, 20-Leads, Body 6.5x4.4mm, Pitch 0.65mm, IPC Low Density)
pins: 1 VBAT (power), 2 VCCO (power), 3 SCLK (in), 4 I/O (io), 5 CS (in), 6 ~{CEI} (in), 7 ~{CEOL} (out), 8 ~{CEOH} (out), 9 INT (out), 10 GND (power), 11 ~{BHE} (in), 12 ~{BLE} (in), 13 ~{RST} (io), 14 AIN2 (in), 15 AIN1 (in), 16 AIN0 (in), 17 X2, 18 X1, 19 VCC (power), 20 ~{ST} (in)

## DS1673E-5
designator U?
Portable System Controller, Real-Time Clock, NV SRAM Control, Microprocessor Monitor, ADC, 5.0V, 20-Pin TSSOP, 0 to 70 degC; DatasheetVersion: Aug-2005; PackageVersion: revL, 2010; PackageReference: U20-1; PackageDescription: 20-Pin Thin Shrink Small-Outline Package, 4.4 mm Body, TSSOP; Code_JEDEC: MO-153-AC; ComponentLink1Description: Manufacturer URL; ComponentLink1URL: http://www.maxim-ic.com; ComponentLink2Description: Datasheet; ComponentLink2URL: http://datasheets.maxim-ic.com/en/ds/DS1673.pdf; ComponentLink3Description: Package Specification; ComponentLink3URL: http://pdfserv.maxim-ic.com/package_dwgs/21-0066.PDF
footprint U20-1_N (TSOP, 20-Leads, Body 6.5x4.4mm, Pitch 0.65mm, IPC Medium Density)
footprint U20-1_L (TSOP, 20-Leads, Body 6.5x4.4mm, Pitch 0.65mm, IPC High Density)
footprint U20-1_M (TSOP, 20-Leads, Body 6.5x4.4mm, Pitch 0.65mm, IPC Low Density)
pins: 1 VBAT (power), 2 VCCO (power), 3 SCLK (in), 4 I/O (io), 5 CS (in), 6 ~{CEI} (in), 7 ~{CEOL} (out), 8 ~{CEOH} (out), 9 INT (out), 10 GND (power), 11 ~{BHE} (in), 12 ~{BLE} (in), 13 ~{RST} (io), 14 AIN2 (in), 15 AIN1 (in), 16 AIN0 (in), 17 X2, 18 X1, 19 VCC (power), 20 ~{ST} (in)

## DS1673E-5+
designator U?
Portable System Controller, Real-Time Clock, NV SRAM Control, Microprocessor Monitor, ADC, 5.0V, 20-Pin TSSOP, 0 to 70 degC, Pb-Free; DatasheetVersion: Aug-2005; PackageVersion: revL, 2010; PackageReference: U20+1; PackageDescription: 20-Pin Thin Shrink Small-Outline Package, 4.4 mm Body, TSSOP, Pb-Free; Code_JEDEC: MO-153-AC; ComponentLink1Description: Manufacturer URL; ComponentLink1URL: http://www.maxim-ic.com; ComponentLink2Description: Datasheet; ComponentLink2URL: http://datasheets.maxim-ic.com/en/ds/DS1673.pdf; ComponentLink3Description: Package Specification; ComponentLink3URL: http://pdfserv.maxim-ic.com/package_dwgs/21-0066.PDF
footprint U20+1_N (TSOP, 20-Leads, Body 6.5x4.4mm, Pitch 0.65mm, IPC Medium Density)
footprint U20+1_L (TSOP, 20-Leads, Body 6.5x4.4mm, Pitch 0.65mm, IPC High Density)
footprint U20+1_M (TSOP, 20-Leads, Body 6.5x4.4mm, Pitch 0.65mm, IPC Low Density)
pins: 1 VBAT (power), 2 VCCO (power), 3 SCLK (in), 4 I/O (io), 5 CS (in), 6 ~{CEI} (in), 7 ~{CEOL} (out), 8 ~{CEOH} (out), 9 INT (out), 10 GND (power), 11 ~{BHE} (in), 12 ~{BLE} (in), 13 ~{RST} (io), 14 AIN2 (in), 15 AIN1 (in), 16 AIN0 (in), 17 X2, 18 X1, 19 VCC (power), 20 ~{ST} (in)

## DS1673E-5+T&R
designator U?
Portable System Controller, Real-Time Clock, NV SRAM Control, Microprocessor Monitor, ADC, 5.0V, 20-Pin TSSOP, 0 to 70 degC, Pb-Free, Reel; DatasheetVersion: Aug-2005; PackageVersion: revL, 2010; PackageReference: U20+1; PackageDescription: 20-Pin Thin Shrink Small-Outline Package, 4.4 mm Body, TSSOP, Pb-Free; Code_JEDEC: MO-153-AC; ComponentLink1Description: Manufacturer URL; ComponentLink1URL: http://www.maxim-ic.com; ComponentLink2Description: Datasheet; ComponentLink2URL: http://datasheets.maxim-ic.com/en/ds/DS1673.pdf; ComponentLink3Description: Package Specification; ComponentLink3URL: http://pdfserv.maxim-ic.com/package_dwgs/21-0066.PDF
footprint U20+1_N (TSOP, 20-Leads, Body 6.5x4.4mm, Pitch 0.65mm, IPC Medium Density)
footprint U20+1_L (TSOP, 20-Leads, Body 6.5x4.4mm, Pitch 0.65mm, IPC High Density)
footprint U20+1_M (TSOP, 20-Leads, Body 6.5x4.4mm, Pitch 0.65mm, IPC Low Density)
pins: 1 VBAT (power), 2 VCCO (power), 3 SCLK (in), 4 I/O (io), 5 CS (in), 6 ~{CEI} (in), 7 ~{CEOL} (out), 8 ~{CEOH} (out), 9 INT (out), 10 GND (power), 11 ~{BHE} (in), 12 ~{BLE} (in), 13 ~{RST} (io), 14 AIN2 (in), 15 AIN1 (in), 16 AIN0 (in), 17 X2, 18 X1, 19 VCC (power), 20 ~{ST} (in)

## DS1673E-5/T&R
designator U?
Portable System Controller, Real-Time Clock, NV SRAM Control, Microprocessor Monitor, ADC, 5.0V, 20-Pin TSSOP, 0 to 70 degC, Reel; DatasheetVersion: Aug-2005; PackageVersion: revL, 2010; PackageReference: U20-1; PackageDescription: 20-Pin Thin Shrink Small-Outline Package, 4.4 mm Body, TSSOP; Code_JEDEC: MO-153-AC; ComponentLink1Description: Manufacturer URL; ComponentLink1URL: http://www.maxim-ic.com; ComponentLink2Description: Datasheet; ComponentLink2URL: http://datasheets.maxim-ic.com/en/ds/DS1673.pdf; ComponentLink3Description: Package Specification; ComponentLink3URL: http://pdfserv.maxim-ic.com/package_dwgs/21-0066.PDF
footprint U20-1_N (TSOP, 20-Leads, Body 6.5x4.4mm, Pitch 0.65mm, IPC Medium Density)
footprint U20-1_L (TSOP, 20-Leads, Body 6.5x4.4mm, Pitch 0.65mm, IPC High Density)
footprint U20-1_M (TSOP, 20-Leads, Body 6.5x4.4mm, Pitch 0.65mm, IPC Low Density)
pins: 1 VBAT (power), 2 VCCO (power), 3 SCLK (in), 4 I/O (io), 5 CS (in), 6 ~{CEI} (in), 7 ~{CEOL} (out), 8 ~{CEOH} (out), 9 INT (out), 10 GND (power), 11 ~{BHE} (in), 12 ~{BLE} (in), 13 ~{RST} (io), 14 AIN2 (in), 15 AIN1 (in), 16 AIN0 (in), 17 X2, 18 X1, 19 VCC (power), 20 ~{ST} (in)

## DS1673S-3
designator U?
Portable System Controller, Real-Time Clock, NV SRAM Control, Microprocessor Monitor, ADC, 3.0V, 20-Pin SO, 0 to 70 degC; DatasheetVersion: Aug-2005; PackageVersion: revD, 2010; PackageReference: W20-3; PackageDescription: 20-Pin Small-Outline IC, Wide (0.3in), 1.27 mm Pitch, SOIC (W); Code_JEDEC: MS-013-AC; Code_IPC: SOIC127P1030-20; ComponentLink1Description: Manufacturer URL; ComponentLink1URL: http://www.maxim-ic.com; ComponentLink2Description: Datasheet; ComponentLink2URL: http://datasheets.maxim-ic.com/en/ds/DS1673.pdf; ComponentLink3Description: Package Specification; ComponentLink3URL: http://pdfserv.maxim-ic.com/package_dwgs/21-0042.PDF
footprint W20-3_N (SOIC, 20-Leads, Body 12.8x7.5mm, Pitch 1.27mm, IPC Medium Density)
footprint W20-3_L (SOIC, 20-Leads, Body 12.8x7.5mm, Pitch 1.27mm, IPC High Density)
footprint W20-3_M (SOIC, 20-Leads, Body 12.8x7.5mm, Pitch 1.27mm, IPC Low Density)
pins: 1 VBAT (power), 2 VCCO (power), 3 SCLK (in), 4 I/O (io), 5 CS (in), 6 ~{CEI} (in), 7 ~{CEOL} (out), 8 ~{CEOH} (out), 9 INT (out), 10 GND (power), 11 ~{BHE} (in), 12 ~{BLE} (in), 13 ~{RST} (io), 14 AIN2 (in), 15 AIN1 (in), 16 AIN0 (in), 17 X2, 18 X1, 19 VCC (power), 20 ~{ST} (in)

## DS1673S-3+
designator U?
Portable System Controller, Real-Time Clock, NV SRAM Control, Microprocessor Monitor, ADC, 3.0V, 20-Pin SO, 0 to 70 degC, Pb-Free; DatasheetVersion: Aug-2005; PackageVersion: revD, 2010; PackageReference: W20+3; PackageDescription: 20-Pin Small-Outline IC, Wide (0.3in), 1.27 mm Pitch, SOIC (W), Pb-Free; Code_JEDEC: MS-013-AC; Code_IPC: SOIC127P1030-20; ComponentLink1Description: Manufacturer URL; ComponentLink1URL: http://www.maxim-ic.com; ComponentLink2Description: Datasheet; ComponentLink2URL: http://datasheets.maxim-ic.com/en/ds/DS1673.pdf; ComponentLink3Description: Package Specification; ComponentLink3URL: http://pdfserv.maxim-ic.com/package_dwgs/21-0042.PDF
footprint W20+3_N (SOIC, 20-Leads, Body 12.8x7.5mm, Pitch 1.27mm, IPC Medium Density)
footprint W20+3_L (SOIC, 20-Leads, Body 12.8x7.5mm, Pitch 1.27mm, IPC High Density)
footprint W20+3_M (SOIC, 20-Leads, Body 12.8x7.5mm, Pitch 1.27mm, IPC Low Density)
pins: 1 VBAT (power), 2 VCCO (power), 3 SCLK (in), 4 I/O (io), 5 CS (in), 6 ~{CEI} (in), 7 ~{CEOL} (out), 8 ~{CEOH} (out), 9 INT (out), 10 GND (power), 11 ~{BHE} (in), 12 ~{BLE} (in), 13 ~{RST} (io), 14 AIN2 (in), 15 AIN1 (in), 16 AIN0 (in), 17 X2, 18 X1, 19 VCC (power), 20 ~{ST} (in)

## DS1673S-5
designator U?
Portable System Controller, Real-Time Clock, NV SRAM Control, Microprocessor Monitor, ADC, 5.0V, 20-Pin SO, 0 to 70 degC; DatasheetVersion: Aug-2005; PackageVersion: revD, 2010; PackageReference: W20-3; PackageDescription: 20-Pin Small-Outline IC, Wide (0.3in), 1.27 mm Pitch, SOIC (W); Code_JEDEC: MS-013-AC; Code_IPC: SOIC127P1030-20; ComponentLink1Description: Manufacturer URL; ComponentLink1URL: http://www.maxim-ic.com; ComponentLink2Description: Datasheet; ComponentLink2URL: http://datasheets.maxim-ic.com/en/ds/DS1673.pdf; ComponentLink3Description: Package Specification; ComponentLink3URL: http://pdfserv.maxim-ic.com/package_dwgs/21-0042.PDF
footprint W20-3_N (SOIC, 20-Leads, Body 12.8x7.5mm, Pitch 1.27mm, IPC Medium Density)
footprint W20-3_L (SOIC, 20-Leads, Body 12.8x7.5mm, Pitch 1.27mm, IPC High Density)
footprint W20-3_M (SOIC, 20-Leads, Body 12.8x7.5mm, Pitch 1.27mm, IPC Low Density)
pins: 1 VBAT (power), 2 VCCO (power), 3 SCLK (in), 4 I/O (io), 5 CS (in), 6 ~{CEI} (in), 7 ~{CEOL} (out), 8 ~{CEOH} (out), 9 INT (out), 10 GND (power), 11 ~{BHE} (in), 12 ~{BLE} (in), 13 ~{RST} (io), 14 AIN2 (in), 15 AIN1 (in), 16 AIN0 (in), 17 X2, 18 X1, 19 VCC (power), 20 ~{ST} (in)

## DS1673S-5+
designator U?
Portable System Controller, Real-Time Clock, NV SRAM Control, Microprocessor Monitor, ADC, 5.0V, 20-Pin SO, 0 to 70 degC, Pb-Free; DatasheetVersion: Aug-2005; PackageVersion: revD, 2010; PackageReference: W20+3; PackageDescription: 20-Pin Small-Outline IC, Wide (0.3in), 1.27 mm Pitch, SOIC (W), Pb-Free; Code_JEDEC: MS-013-AC; Code_IPC: SOIC127P1030-20; ComponentLink1Description: Manufacturer URL; ComponentLink1URL: http://www.maxim-ic.com; ComponentLink2Description: Datasheet; ComponentLink2URL: http://datasheets.maxim-ic.com/en/ds/DS1673.pdf; ComponentLink3Description: Package Specification; ComponentLink3URL: http://pdfserv.maxim-ic.com/package_dwgs/21-0042.PDF
footprint W20+3_N (SOIC, 20-Leads, Body 12.8x7.5mm, Pitch 1.27mm, IPC Medium Density)
footprint W20+3_L (SOIC, 20-Leads, Body 12.8x7.5mm, Pitch 1.27mm, IPC High Density)
footprint W20+3_M (SOIC, 20-Leads, Body 12.8x7.5mm, Pitch 1.27mm, IPC Low Density)
pins: 1 VBAT (power), 2 VCCO (power), 3 SCLK (in), 4 I/O (io), 5 CS (in), 6 ~{CEI} (in), 7 ~{CEOL} (out), 8 ~{CEOH} (out), 9 INT (out), 10 GND (power), 11 ~{BHE} (in), 12 ~{BLE} (in), 13 ~{RST} (io), 14 AIN2 (in), 15 AIN1 (in), 16 AIN0 (in), 17 X2, 18 X1, 19 VCC (power), 20 ~{ST} (in)

## DS1673S-5+T&R
designator U?
Portable System Controller, Real-Time Clock, NV SRAM Control, Microprocessor Monitor, ADC, 5.0V, 20-Pin SO, 0 to 70 degC, Pb-Free, Reel; DatasheetVersion: Aug-2005; PackageVersion: revD, 2010; PackageReference: W20+3; PackageDescription: 20-Pin Small-Outline IC, Wide (0.3in), 1.27 mm Pitch, SOIC (W), Pb-Free; Code_JEDEC: MS-013-AC; Code_IPC: SOIC127P1030-20; ComponentLink1Description: Manufacturer URL; ComponentLink1URL: http://www.maxim-ic.com; ComponentLink2Description: Datasheet; ComponentLink2URL: http://datasheets.maxim-ic.com/en/ds/DS1673.pdf; ComponentLink3Description: Package Specification; ComponentLink3URL: http://pdfserv.maxim-ic.com/package_dwgs/21-0042.PDF
footprint W20+3_N (SOIC, 20-Leads, Body 12.8x7.5mm, Pitch 1.27mm, IPC Medium Density)
footprint W20+3_L (SOIC, 20-Leads, Body 12.8x7.5mm, Pitch 1.27mm, IPC High Density)
footprint W20+3_M (SOIC, 20-Leads, Body 12.8x7.5mm, Pitch 1.27mm, IPC Low Density)
pins: 1 VBAT (power), 2 VCCO (power), 3 SCLK (in), 4 I/O (io), 5 CS (in), 6 ~{CEI} (in), 7 ~{CEOL} (out), 8 ~{CEOH} (out), 9 INT (out), 10 GND (power), 11 ~{BHE} (in), 12 ~{BLE} (in), 13 ~{RST} (io), 14 AIN2 (in), 15 AIN1 (in), 16 AIN0 (in), 17 X2, 18 X1, 19 VCC (power), 20 ~{ST} (in)

## DS1677E
designator U?
Portable System Controller, Real-Time Clock, NV SRAM Control, Microprocessor Monitor, ADC, 5.0V, 20-Pin TSSOP, 0 to 70 degC; DatasheetVersion: Sep-2005; PackageVersion: revL, 2010; PackageReference: U20-1; PackageDescription: 20-Pin Thin Shrink Small-Outline Package, 4.4 mm Body, TSSOP; Code_JEDEC: MO-153-AC; ComponentLink1Description: Manufacturer URL; ComponentLink1URL: http://www.maxim-ic.com; ComponentLink2Description: Datasheet; ComponentLink2URL: http://datasheets.maxim-ic.com/en/ds/DS1677.pdf; ComponentLink3Description: Package Specification; ComponentLink3URL: http://pdfserv.maxim-ic.com/package_dwgs/21-0066.PDF
footprint U20-1_N (TSOP, 20-Leads, Body 6.5x4.4mm, Pitch 0.65mm, IPC Medium Density)
footprint U20-1_L (TSOP, 20-Leads, Body 6.5x4.4mm, Pitch 0.65mm, IPC High Density)
footprint U20-1_M (TSOP, 20-Leads, Body 6.5x4.4mm, Pitch 0.65mm, IPC Low Density)
pins: 1 VBAT (power), 2 VCCO (power), 3 SCLK (in), 4 I/O (io), 5 CS (in), 6 ~{CEI} (in), 7 ~{CEO} (out), 8 NC, 9 INT (out), 10 GND (power), 11 ~{PFO} (out), 12 ~{PFI} (in), 13 ~{RST} (io), 14 AIN2 (in), 15 AIN1 (in), 16 AIN0 (in), 17 X2, 18 X1, 19 VCC (power), 20 ~{ST} (in)

## DS1677E+
designator U?
Portable System Controller, Real-Time Clock, NV SRAM Control, Microprocessor Monitor, ADC, 5.0V, 20-Pin TSSOP, 0 to 70 degC, Pb-Free; DatasheetVersion: Sep-2005; PackageVersion: revL, 2010; PackageReference: U20+1; PackageDescription: 20-Pin Thin Shrink Small-Outline Package, 4.4 mm Body, TSSOP, Pb-Free; Code_JEDEC: MO-153-AC; ComponentLink1Description: Manufacturer URL; ComponentLink1URL: http://www.maxim-ic.com; ComponentLink2Description: Datasheet; ComponentLink2URL: http://datasheets.maxim-ic.com/en/ds/DS1677.pdf; ComponentLink3Description: Package Specification; ComponentLink3URL: http://pdfserv.maxim-ic.com/package_dwgs/21-0066.PDF
footprint U20+1_N (TSOP, 20-Leads, Body 6.5x4.4mm, Pitch 0.65mm, IPC Medium Density)
footprint U20+1_L (TSOP, 20-Leads, Body 6.5x4.4mm, Pitch 0.65mm, IPC High Density)
footprint U20+1_M (TSOP, 20-Leads, Body 6.5x4.4mm, Pitch 0.65mm, IPC Low Density)
pins: 1 VBAT (power), 2 VCCO (power), 3 SCLK (in), 4 I/O (io), 5 CS (in), 6 ~{CEI} (in), 7 ~{CEO} (out), 8 NC, 9 INT (out), 10 GND (power), 11 ~{PFO} (out), 12 ~{PFI} (in), 13 ~{RST} (io), 14 AIN2 (in), 15 AIN1 (in), 16 AIN0 (in), 17 X2, 18 X1, 19 VCC (power), 20 ~{ST} (in)

## DS1678
designator U?
Real-Time Event Recorder, 32 Byte Battery-Backed NV RAM, 5.0V, 8-Pin PDIP, -40 to 85 degC; DatasheetVersion: Apr-2005; PackageVersion: revE, 2011; PackageReference: P8-4; PackageDescription: 8-Pin Plastic Dual-In-Line, Narrow (0.3in), Pitch 2.54 mm, PDIP(N); Code_JEDEC: MS-001-AB; ComponentLink1Description: Manufacturer URL; ComponentLink1URL: http://www.maxim-ic.com; ComponentLink2Description: Datasheet; ComponentLink2URL: http://datasheets.maxim-ic.com/en/ds/DS1678.pdf; ComponentLink3Description: Package Specification; ComponentLink3URL: http://pdfserv.maxim-ic.com/package_dwgs/21-0043.PDF
footprint P8-4 (DIP, 8-Leads, Row Spacing 7.62mm, Pitch 2.54mm, Body 9.4x7mm)
pins: 1 X1, 2 X2, 3 VBAT (power), 4 GND (power), 5 SDA (io), 6 SCL (in), 7 ~{INT} (io), 8 VCC (power)

## DS1678+
designator U?
Real-Time Event Recorder, 32 Byte Battery-Backed NV RAM, 5.0V, 8-Pin PDIP, -40 to 85 degC, Pb-Free; DatasheetVersion: Apr-2005; PackageVersion: revE, 2011; PackageReference: P8+4; PackageDescription: 8-Pin Plastic Dual-In-Line, Narrow (0.3in), Pitch 2.54 mm, PDIP(N), Pb-Free; Code_JEDEC: MS-001-AB; ComponentLink1Description: Manufacturer URL; ComponentLink1URL: http://www.maxim-ic.com; ComponentLink2Description: Datasheet; ComponentLink2URL: http://datasheets.maxim-ic.com/en/ds/DS1678.pdf; ComponentLink3Description: Package Specification; ComponentLink3URL: http://pdfserv.maxim-ic.com/package_dwgs/21-0043.PDF
footprint P8+4 (DIP, 8-Leads, Row Spacing 7.62mm, Pitch 2.54mm, Body 9.4x7mm)
pins: 1 X1, 2 X2, 3 VBAT (power), 4 GND (power), 5 SDA (io), 6 SCL (in), 7 ~{INT} (io), 8 VCC (power)

## DS1678S+
designator U?
Real-Time Event Recorder, 32 Byte Battery-Backed NV RAM, 5.0V, 8-Pin SO, -40 to 85 degC, Pb-Free; DatasheetVersion: Apr-2005; PackageVersion: revB, 2010; PackageReference: W8+4; PackageDescription: 8-Pin Small-Outline IC, 0.208in, 1.27 mm Pitch, SOIC, Pb-Free; ComponentLink1Description: Manufacturer URL; ComponentLink1URL: http://www.maxim-ic.com; ComponentLink2Description: Datasheet; ComponentLink2URL: http://datasheets.maxim-ic.com/en/ds/DS1678.pdf; ComponentLink3Description: Package Specification; ComponentLink3URL: http://pdfserv.maxim-ic.com/package_dwgs/21-0262.PDF
footprint W8+4_N (SOP, 8-Leads, Body 5.3x5.3mm, Pitch 1.27mm, IPC Medium Density)
footprint W8+4_L (SOP, 8-Leads, Body 5.3x5.3mm, Pitch 1.27mm, IPC High Density)
footprint W8+4_M (SOP, 8-Leads, Body 5.3x5.3mm, Pitch 1.27mm, IPC Low Density)
pins: 1 X1, 2 X2, 3 VBAT (power), 4 GND (power), 5 SDA (io), 6 SCL (in), 7 ~{INT} (io), 8 VCC (power)

## DS1678S+T&R
designator U?
Real-Time Event Recorder, 32 Byte Battery-Backed NV RAM, 5.0V, 8-Pin SO, -40 to 85 degC, Pb-Free, Reel; DatasheetVersion: Apr-2005; PackageVersion: revB, 2010; PackageReference: W8+4; PackageDescription: 8-Pin Small-Outline IC, 0.208in, 1.27 mm Pitch, SOIC, Pb-Free; ComponentLink1Description: Manufacturer URL; ComponentLink1URL: http://www.maxim-ic.com; ComponentLink2Description: Datasheet; ComponentLink2URL: http://datasheets.maxim-ic.com/en/ds/DS1678.pdf; ComponentLink3Description: Package Specification; ComponentLink3URL: http://pdfserv.maxim-ic.com/package_dwgs/21-0262.PDF
footprint W8+4_N (SOP, 8-Leads, Body 5.3x5.3mm, Pitch 1.27mm, IPC Medium Density)
footprint W8+4_L (SOP, 8-Leads, Body 5.3x5.3mm, Pitch 1.27mm, IPC High Density)
footprint W8+4_M (SOP, 8-Leads, Body 5.3x5.3mm, Pitch 1.27mm, IPC Low Density)
pins: 1 X1, 2 X2, 3 VBAT (power), 4 GND (power), 5 SDA (io), 6 SCL (in), 7 ~{INT} (io), 8 VCC (power)

## DS1682S
designator U?
I2C-Compatible Total Elapsed Time Recorder with Alarm, 8-Pin SO, -40 to 85 degC; DatasheetVersion: Oct-2005; PackageVersion: revC, 2010; PackageReference: S8-2; PackageDescription: 8-Pin Small-Outline IC, Narrow (0.15in), 1.27 mm Pitch, SOIC (N); Code_JEDEC: MS-012-AA; Code_IPC: SOIC127P600-8; ComponentLink1Description: Manufacturer URL; ComponentLink1URL: http://www.maxim-ic.com; ComponentLink2Description: Datasheet; ComponentLink2URL: http://datasheets.maxim-ic.com/en/ds/DS1682.pdf; ComponentLink3Description: Package Specification; ComponentLink3URL: http://pdfserv.maxim-ic.com/package_dwgs/21-0041.PDF
footprint S8-2_N (SOIC, 8-Leads, Body 4.9x3.9mm, Pitch 1.27mm, IPC Medium Density)
footprint S8-2_L (SOIC, 8-Leads, Body 4.9x3.9mm, Pitch 1.27mm, IPC High Density)
footprint S8-2_M (SOIC, 8-Leads, Body 4.9x3.9mm, Pitch 1.27mm, IPC Low Density)
pins: 1 EVENT (in), 2 NC, 3 ~{ALARM} (oc), 4 GND (power), 5 SCL (in), 6 SDA (io), 7 NC, 8 VCC (power)